# EAGLE library part SC08-11 (library ArdDisp)
SK08-11SRWA 20mm 7seg pro Helebranta 15-7-2012 Kingbright spolecna katoda
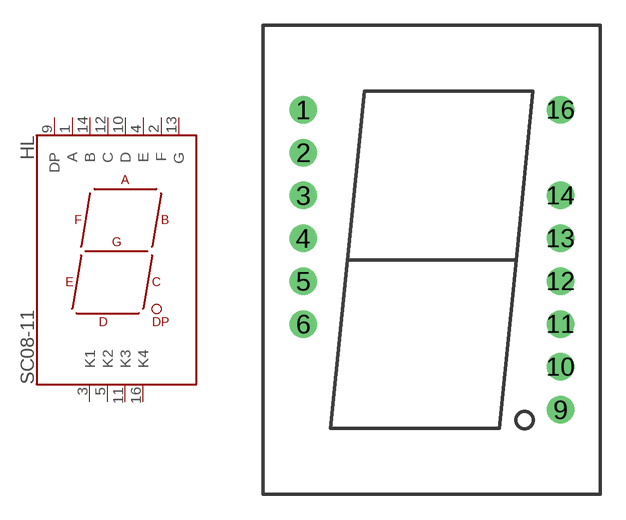
[diagram p1: symbol with the pads of SC08-11; footprint SC08-11]

Designator prefix HL

## SC08-11  [SC08-11]
1  A  pas
2  F  pas
3  K1  pas
4  E  pas
5  K2  pas
9  DP  pas
10  D  pas
11  K3  pas
12  C  pas
13  G  pas
14  B  pas
16  K4  pas

## Footprint SC08-11 (pad centres in mm)
SK08-11SRWA 20mm 7seg pro Helebranta 15-7-2012 Kingbright spolecna katoda
drill 0.8 pad 1.626: 1 -7.62,8.89; 2 -7.62,6.35; 3 -7.62,3.81; 4 -7.62,1.27; 5 -7.62,-1.27; 6 -7.62,-3.81; 9 7.62,-8.89; 10 7.62,-6.35; 11 7.62,-3.81; 12 7.62,-1.27; 13 7.62,1.27; 14 7.62,3.81; 16 7.62,8.89